# Altium footprint library CLAP.PcbLib: 265 footprints (part 5 of 17)
Each footprint in its own frame and in the unit in brackets; x right, y up, seen from the top. Pads: shape width x height; smd on the part's side, far side on the other; paste and mask are expansions set on the pad; w line width, h text height; cw(c..) or ccw(c..) is an arc to the next point about the centre after c.
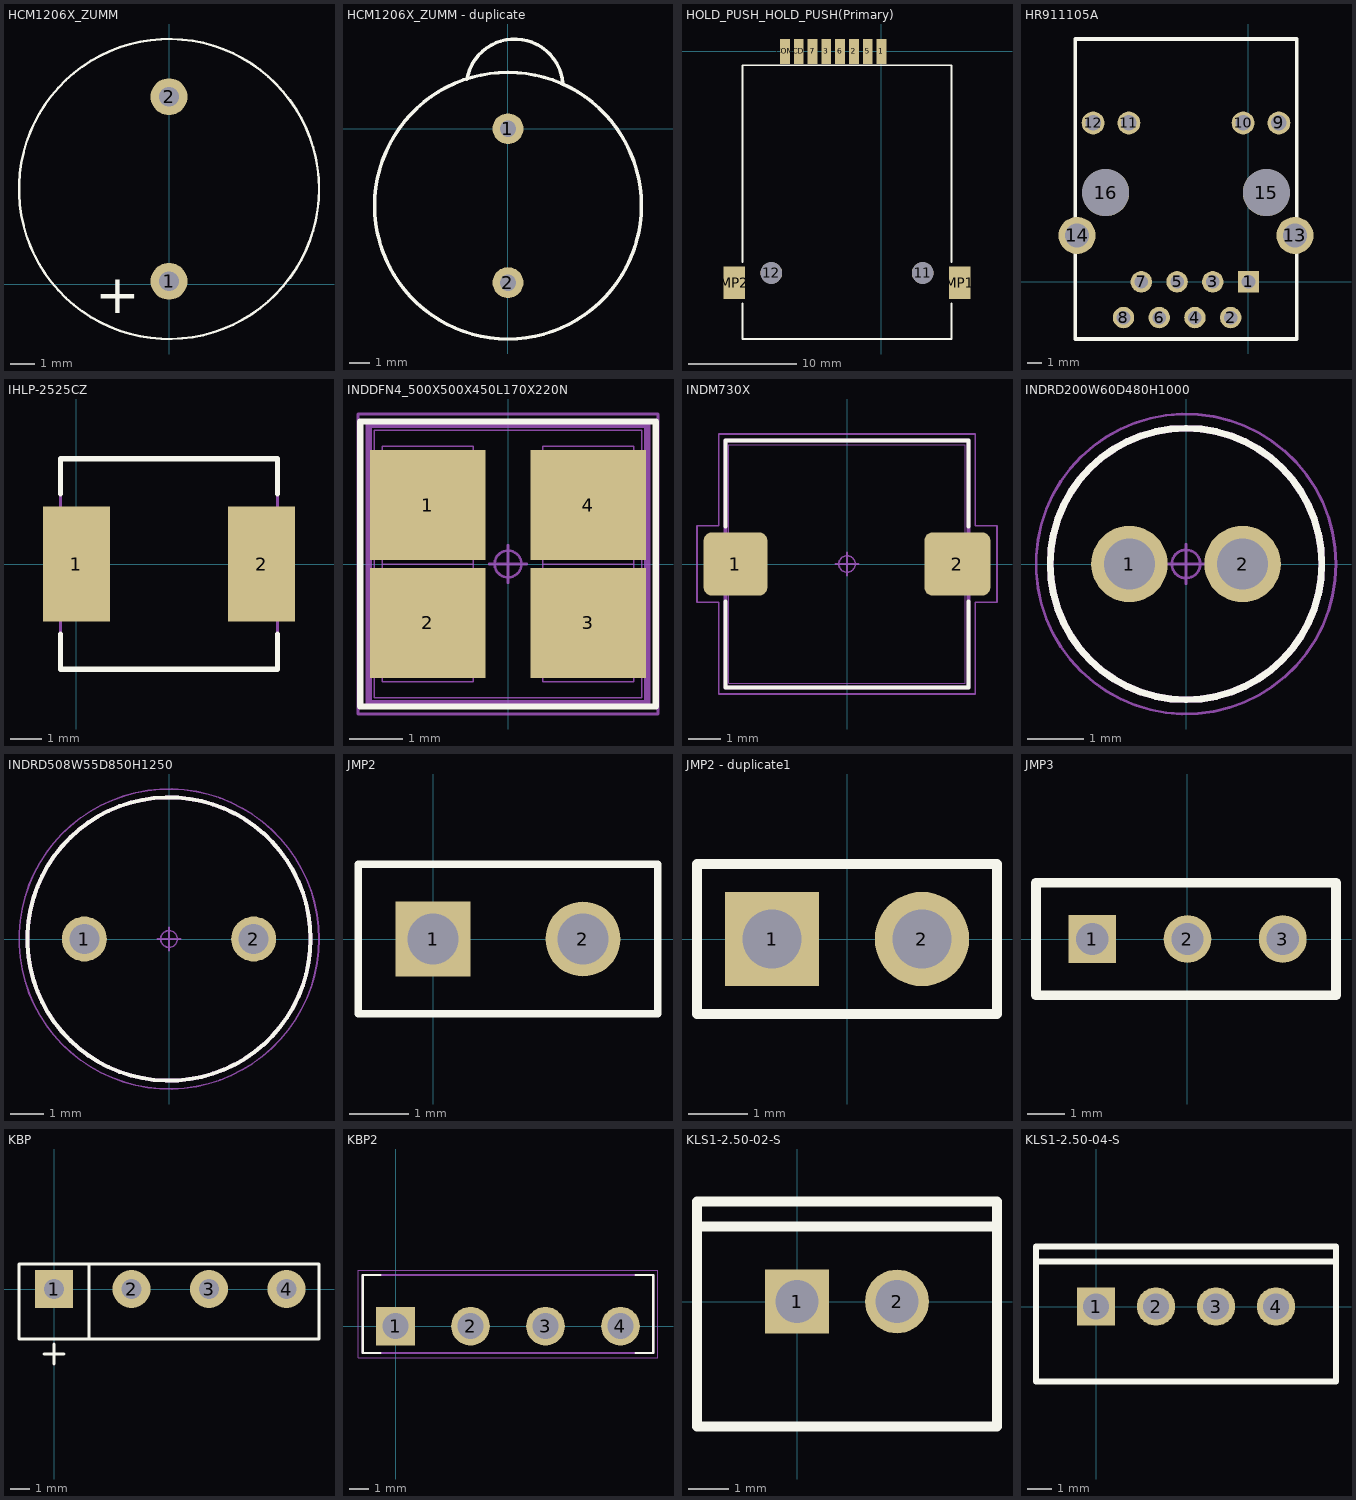
[diagram p4: the footprints below, top view; thin cyan lines are the x and y axes]

## HCM1206X_ZUMM [mm]
pads (2):
  round 1.5 hole 0.8: 1(0,0.12) 2(0,7.62)
Top Overlay:
  circle w0.099: c0,3.87 r6.096
  text "+" at -3,-1.17 h1.59
3D body "buzzer.stp": height 9.5, standoff -5.5, extent -6,-2.19 6,9.81

## HCM1206X_ZUMM - duplicate [mm]
height 9.5
pads (2):
  round 1.5 hole 0.8: 1(0,0) 2(0,-7.5)
Top Overlay:
  circle w0.17: c0,-3.75 r6.5
  lines w0.17: -2.002,2.4 cw(c0.325,2.011) 2.678,2.2
Mechanical 1:
  circle w0.1: c0,-3.75 r6.5
  lines w0.1: -2.002,2.4 cw(c0.325,2.011) 2.678,2.2
  text "+" at -5.039,-2.782 h1.59
3D body "Buzzer_Passive.stp": height 8.25, standoff -2.4, extent -5.92,-9.855 5.93,1.995

## HOLD_PUSH_HOLD_PUSH(Primary) [mm]
pads (12):
  rect 0.9x2.3 smd: 1(0,0) 2(-2.54,0) 3(-5.08,0) 5(-1.27,0) 6(-3.81,0) 7(-6.35,0) CD(-7.62,0) COM(-8.89,0)
  round 2 hole 2 unplated: 11(3.81,-20.447) 12(-10.16,-20.447)
  rect 2x3 smd: MP1(7.239,-21.336) MP2(-13.589,-21.336)
Top Overlay:
  lines w0.17: -12.827,-23.241 -12.827,-26.543 6.477,-26.543 6.477,-23.241 ; -12.827,-19.431 -12.827,-1.27 6.477,-1.27 6.477,-19.431
3D body "115A-ADA0-R02.step": height 1.8, standoff 0, extent -13.675,-26.45 7.275,0.55

## HR911105A [mil]
pads (16):
  rect 60x60 hole 38: 1(0,0)
  round 60 hole 38: 2(-50,-100) 3(-100,0) 4(-150,-100) 5(-200,0) 6(-250,-100) 7(-300,0) 8(-350,-100)
  round 63.94 hole 43.31: 9(85,445) 10(-15,445) 11(-335,445) 12(-435,445)
  round 103.94 hole 66.93: 13(130,130) 14(-480,130)
  round 131.93 hole 131.93 unplated: 15(50,250) 16(-400,250)
Top Overlay:
  lines w10: -485,-160 135,-160 135,680 -485,680 -485,-160
3D body "HR911105A.step": height 531.5, standoff -118.11, extent -487.4,-161.42 137.79,681.1

## IHLP-2525CZ [mm]
height 0.076
pads (2):
  rect 2.1x3.6 smd: 1(0,0) 2(5.8,0)
Top Overlay:
  lines w0.17: -0.5,-2.2 -0.5,-3.3 6.3,-3.3 6.3,-2.2 ; -0.5,2.2 -0.5,3.3 6.3,3.3 6.3,2.2
Mechanical 1:
  lines w0.1: -0.5,-3.3 6.3,-3.3 6.3,3.3 -0.5,3.3 -0.5,-3.3

## INDDFN4_500X500X450L170X220N [mm] "Inductor, Dual Flat No-Lead (DFN 4 Pins), 3.00 mm pitch; 4 pin, 5.00 mm L X 5.00 mm W X 4.50 mm H body"
height 4.5
pads (4):
  rect 2.16x2.05 smd: 1(-1.5,1.1) 2(-1.5,-1.1) 3(1.5,-1.1) 4(1.5,1.1)
Top Overlay:
  lines w0.12: -2.76,-2.66 2.76,-2.66 2.76,2.66 -2.76,2.66 -2.76,-2.66
Mechanical 11:
  lines w0.12: -2.6,-2.6 2.6,-2.6 2.6,2.6 -2.6,2.6 -2.6,-2.6
Mechanical 12:
  lines w0.025: -2.35,0 -0.65,0 ; -2.35,0 -2.35,-2.2 -0.65,-2.2 -0.65,0 ; -2.35,0 -2.35,2.2 -0.65,2.2 -0.65,0 ; -2.35,0 -0.65,0 ; 0.65,0 2.35,0 ; 0.65,0 0.65,2.2 2.35,2.2 2.35,0 ; 0.65,0 2.35,0 ; 0.65,0 0.65,-2.2 2.35,-2.2 2.35,0 ; -2.5,-2.5 2.5,-2.5 2.5,2.5 -2.5,2.5 -2.5,-2.5
Mechanical 15:
  circle w0.05: c0,0 r0.25
  lines w0.05: -0.35,0 0.35,0 ; 0,-0.35 0,0.35 ; -2.8,-2.8 2.8,-2.8 2.8,2.8 -2.8,2.8 -2.8,-2.8
Mechanical 16:
  text ".Designator" at 0,0 h1.2
3D body "INDDFN4_500X500X450L170X220.STEP": height 4.5, standoff 0, extent -2.4,-2.5 2.6,2.5

## INDM730X [mm] "Inductor, Molded Body; 7.20 mm L X 7.25 mm W X 4.50 mm H body"
height 4.5
pads (2):
  rrect26% 1.94x1.93 smd: 1(-3.39,0)
  rrect26% 2.01x1.93 smd: 2(3.355,0)
Top Overlay:
  lines w0.12: -3.7,-1.145 -3.7,-3.75 3.7,-3.75 3.7,-1.145 ; -3.7,1.145 -3.7,3.75 3.7,3.75 3.7,1.145
Mechanical 11:
  lines w0.12: -3.7,-3.75 -3.7,3.75 3.7,3.75 3.7,-3.75 -3.7,-3.75
Mechanical 12:
  lines w0.025: -3.65,-0.9 -2.75,-0.9 -2.75,0.9 -3.65,0.9 -3.65,-0.9 ; -3.6,-3.625 -3.6,3.625 3.6,3.625 3.6,-3.625 -3.6,-3.625 ; 2.7,-0.9 2.7,0.9 3.65,0.9 3.65,-0.9 2.7,-0.9
Mechanical 15:
  circle w0.05: c0,0 r0.25
  lines w0.05: -0.35,0 0.35,0 ; 0,-0.35 0,0.35 ; -4.56,-1.165 -4.56,1.165 -3.9,1.165 -3.9,3.95 3.9,3.95 3.9,1.165 4.56,1.165 4.56,-1.165 3.9,-1.165 3.9,-3.95 -3.9,-3.95 -3.9,-1.165 -4.56,-1.165
Mechanical 16:
  text ".Designator" at 0,0 h1.2
3D body "INDM730X.STEP": height 4.5, standoff 0, extent -3.65,-3.625 3.65,3.625

## INDRD200W60D480H1000 [mm] "Inductor, Radial (Inductor); 2.00 mm C X 4.80 mm Dia X 10.00 mm H body"
height 10
pads (2):
  round 1.35 hole 0.9 paste-1.35: 1(-1,0) 2(1,0)
Top Overlay:
  circle w0.12: c0,0 r2.4
Mechanical 11:
  circle w0.12: c0,0 r2.4
Mechanical 12:
  circle w0.025: c-1,0 r0.35
  circle w0.025: c1,0 r0.35
  circle w0.025: c0,0 r2.4
Mechanical 15:
  circle w0.05: c0,0 r2.65
  circle w0.05: c0,0 r0.25
  lines w0.05: -0.35,0 0.35,0 ; 0,-0.35 0,0.35
Mechanical 16:
  text ".Designator" at 0,0 h1.2
3D body "INDRD200W60D480H1000.STEP": height 10, standoff -2, extent -2.4,-2.4 2.4,2.4

## INDRD508W55D850H1250 [mm] "Inductor, Radial (Inductor); 5.08 mm C X 8.50 mm Dia X 12.50 mm H body"
height 12.5
pads (2):
  round 1.35 hole 0.9 paste-1.35: 1(-2.54,0) 2(2.54,0)
Top Overlay:
  circle w0.12: c0,0 r4.25
Mechanical 11:
  circle w0.12: c0,0 r4.25
Mechanical 12:
  circle w0.025: c-2.54,0 r0.35
  circle w0.025: c2.54,0 r0.35
  circle w0.025: c0,0 r4.25
Mechanical 15:
  circle w0.05: c0,0 r4.5
  circle w0.05: c0,0 r0.25
  lines w0.05: -0.35,0 0.35,0 ; 0,-0.35 0,0.35
Mechanical 16:
  text ".Designator" at 0,0 h1.2
3D body "INDRD508W55D850H1250.STEP": height 12.5, standoff -2, extent -4.25,-4.25 4.25,4.25

## JMP2 [mil]
pads (2):
  rect 50x50 hole 34: 1(0,0)
  round 50 hole 34: 2(100,0)
Top Overlay:
  lines w5: -50,-50 150,-50 150,50 -50,50 -50,-50
3D body "PinHeader_1x02_P2.54mm_Vertical.step": height 336.22, standoff -118.11, extent -50,-50 150,50

## JMP2 - duplicate1 [mm]
pads (2):
  rect 1.6x1.6 hole 1: 1(-1.27,0)
  round 1.6 hole 1: 2(1.27,0)
Top Overlay:
  lines w0.17: -2.54,-1.27 -2.54,1.27 2.54,1.27 2.54,-1.27 -2.54,-1.27
Mechanical 1:
  lines w0.1: -2.54,-1.27 -2.54,1.27 2.54,1.27 2.54,-1.27 -2.54,-1.27
3D body "PinHeader_1x02_P2.54mm_Vertical.step": height 8.54, standoff -3, extent -2.54,-1.27 2.54,1.27

## JMP3 [mil]
pads (3):
  rect 50x50 hole 34: 1(-100,0)
  round 50 hole 34: 2(0,0) 3(100,0)
Top Overlay:
  lines w10: -159.06,-59.06 155.91,-59.06 155.91,59.06 -159.06,59.06 -159.06,-59.06
3D body "PinHeader_1x03_P2.54mm_Vertical.step": height 336.22, standoff -118.11, extent -150,-50 150,50

## KBP [mil]
pads (4):
  rect 76x76 hole 39.4: 1(0,0)
  round 76 hole 39.37: 2(155,0) 3(310,0) 4(465,0)
Top Overlay:
  lines w6.69: -20,-130 20,-130 ; 0,-150 0,-110 ; 70,-100 70,50 ; -70,-100 -70,50 530,50 530,-100 -70,-100
3D body "KBP2.STEP": height 460.63, standoff -78.7, extent -67.5,-105.71 532.5,55.71

## KBP2 [mm] "SIP, 3.937 mm pitch; 4 pin, 15.24 mm L X 4.10 mm W X 11.70 mm H body"
height 11.7
pads (4):
  rect 2.03x2.03 hole 1.35 paste-2.03: 1(0,0)
  round 2.03 hole 1.35 paste-2.03: 2(3.937,0) 3(7.874,0) 4(11.811,0)
Top Overlay:
  lines w0.12: -0.784,-1.415 -1.714,-1.415 -1.714,2.685 -0.784,2.685 ; 12.595,-1.415 13.525,-1.415 13.525,2.685 12.595,2.685
Mechanical 11:
  lines w0.12: -1.714,-1.415 13.525,-1.415 13.525,2.685 -1.714,2.685 -1.714,-1.415
Mechanical 12:
  lines w0.025: -1.714,-1.415 13.525,-1.415 13.525,2.685 -1.714,2.685 -1.714,-1.415 ; -0.45,-0.4 -0.45,0.4 0.45,0.4 0.45,-0.4 -0.45,-0.4 ; 3.487,-0.4 3.487,0.4 4.387,0.4 4.387,-0.4 3.487,-0.4 ; 7.424,-0.4 7.424,0.4 8.324,0.4 8.324,-0.4 7.424,-0.4 ; 11.361,-0.4 11.361,0.4 12.261,0.4 12.261,-0.4 11.361,-0.4
Mechanical 15:
  circle w0.05: c0,0 r0.25
  lines w0.05: -0.35,0 0.35,0 ; 0,-0.35 0,0.35 ; -1.97,-1.67 13.78,-1.67 13.78,2.94 -1.97,2.94 -1.97,-1.67
Mechanical 16:
  text ".Designator" at 0,0 h1.2
3D body "KBP2.STEP": height 11.7, standoff -2, extent -1.714,-1.415 13.525,2.685

## KLS1-2.50-02-S [mm]
pads (2):
  rect 1.6x1.6 hole 1.067: 1(0,0)
  round 1.6 hole 1.067: 2(2.5,0)
Top Overlay:
  lines w0.254: -2.5,1.875 5,1.875 ; -2.5,-3.125 -2.5,2.5 5,2.5 5,-3.125 -2.5,-3.125

## KLS1-2.50-04-S [mil]
pads (4):
  rect 62.99x62.99 hole 42.01: 1(0,0)
  round 63 hole 42: 2(98.43,0) 3(196.85,0) 4(295.28,0)
Top Overlay:
  lines w10: -98.43,73.82 393.7,73.82 ; -98.43,-123.03 -98.43,98.43 393.7,98.43 393.7,-123.03 -98.43,-123.03